# Altium schematic symbol library UOMP_operational amplifier.SchLib: 12 symbols
Pins are listed as number, name and electrical type; pins without a type are passive.

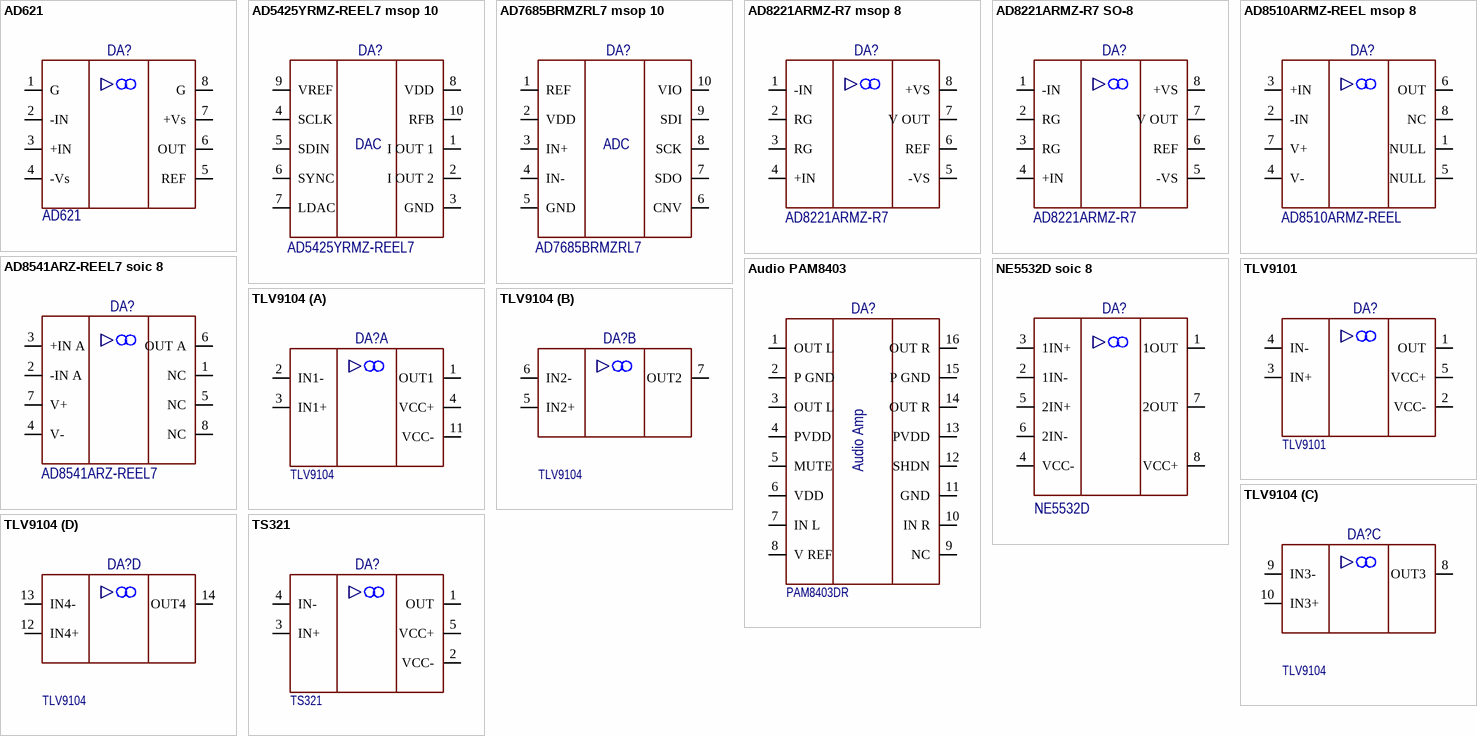
[diagram p0: symbols AD621 to TS321]

## AD621
designator DA?
footprint IC: SOIC 8
pins: 1 G, 2 -IN, 3 +IN, 4 -Vs, 5 REF, 6 OUT, 7 +Vs, 8 G

## AD5425YRMZ-REEL7 msop 10
designator DA?, comment AD5425YRMZ-REEL7
Code: 6335415425; Name: Микросхема AD5425YRMZ-REEL7, AD
footprint IC: MSOP 10
pins: 1 I OUT 1, 2 I OUT 2, 3 GND, 4 SCLK, 5 SDIN, 6 SYNC, 7 LDAC, 8 VDD, 9 VREF, 10 RFB
text: DAC

## AD7685BRMZRL7 msop 10
designator DA?, comment AD7685BRMZRL7
Code: 6335417685; Name: Микросхема AD7685BRMZRL7, AD
footprint IC: MSOP 10
pins: 1 REF, 2 VDD, 3 IN+, 4 IN-, 5 GND, 6 CNV, 7 SDO, 8 SCK, 9 SDI, 10 VIO
text: ADC

## AD8221ARMZ-R7 msop 8
designator DA?, comment AD8221ARMZ-R7
Code: 6330006101; Name: Микросхема AD8221ARMZ-R7, AD
footprint IC: MSOP 8
pins: 1 -IN, 2 RG, 3 RG, 4 +IN, 5 -VS, 6 REF, 7 V OUT, 8 +VS

## AD8221ARMZ-R7 SO-8
designator DA?, comment AD8221ARMZ-R7
Code: 6330006101; Name: Микросхема AD8221ARMZ-R7, AD
footprint IC: SOIC 8
pins: 1 -IN, 2 RG, 3 RG, 4 +IN, 5 -VS, 6 REF, 7 V OUT, 8 +VS

## AD8510ARMZ-REEL msop 8
designator DA?, comment AD8510ARMZ-REEL
Code: 6335418510; Name: Микросхема AD8510ARMZ-REEL, AD
footprint IC: MSOP 8
pins: 1 NULL, 2 -IN, 3 +IN, 4 V-, 5 NULL, 6 OUT, 7 V+, 8 NC

## AD8541ARZ-REEL7 soic 8
designator DA?, comment AD8541ARZ-REEL7
Code: 6339110971; Name: Микросхема AD8541ARZ-REEL7, AD
footprint IC: SOIC 8
pins: 1 NC, 2 -IN A, 3 +IN A, 4 V-, 5 NC, 6 OUT A, 7 V+, 8 NC

## Audio PAM8403
designator DA?, comment PAM8403DR
Code: 6339113991; Name: Микросхема PAM8403DR, Diodes
footprint IC: SOIC 16 (SOIC, 16-Leads, Body 10,0x4,0mm (max), Pitch 1,27mm, IPC Medium Density)
pins: 1 OUT L, 2 P GND, 3 OUT L, 4 PVDD, 5 MUTE, 6 VDD, 7 IN L, 8 V REF, 9 NC, 10 IN R, 11 GND, 12 SHDN, 13 PVDD, 14 OUT R, 15 P GND, 16 OUT R
text: Audio Amp

## NE5532D soic 8
designator DA?, comment NE5532D
Code: 6339110961; Name: Микросхема NE5532D, TI
footprint IC: SOIC 8
pins: 1 1OUT, 2 1IN-, 3 1IN+, 4 VCC-, 5 2IN+, 6 2IN-, 7 2OUT, 8 VCC+

## TLV9101
designator DA?
Code: 6339115821; Name: Микросхема TLV9101IDBVR
footprint IC: SOT 23 5pin
pins: 1 OUT, 2 VCC-, 3 IN+, 4 IN-, 5 VCC+

## TLV9104
designator DA?
Code: 6339115951; Name: Микросхема TLV9104IDR, TI
footprint IC: TSSOP 14
part A pins: 1 OUT1, 2 IN1-, 3 IN1+, 4 VCC+, 11 VCC-
part B pins: 5 IN2+, 6 IN2-, 7 OUT2
part C pins: 8 OUT3, 9 IN3-, 10 IN3+
part D pins: 12 IN4+, 13 IN4-, 14 OUT4

## TS321
designator DA?
Code: 6335513032; Name: Микросхема TS321ILT
footprint IC: SOT 23 5pin
pins: 1 OUT, 2 VCC-, 3 IN+, 4 IN-, 5 VCC+